# EAGLE library part SD_KARD (library kartaSD)
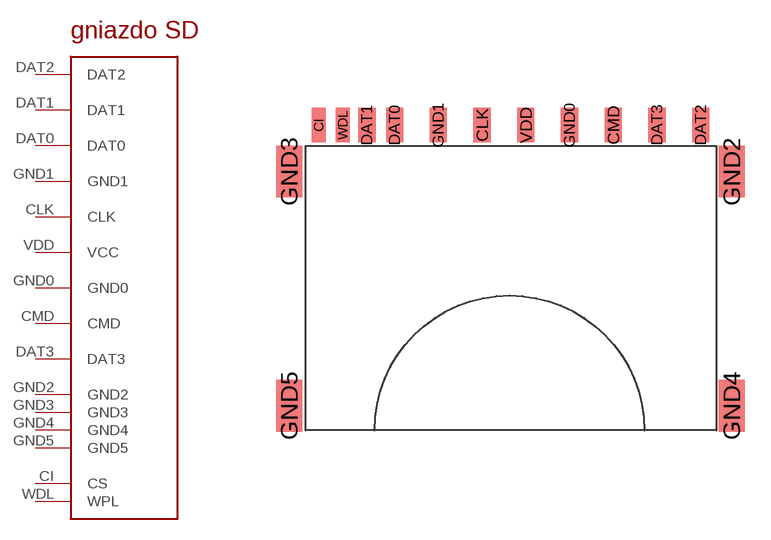
[diagram p0: symbol with the pads of SD_SOCKET; footprint SD_SOCKET]

Designator prefix -

## SD_KARD  [SD_SOCKET]
CI  CS
CLK  CLK
CMD  CMD
DAT0  DAT0
DAT1  DAT1
DAT2  DAT2
DAT3  DAT3
GND0  GND0
GND1  GND1
GND2  GND2
GND3  GND3
GND4  GND4
GND5  GND5
VDD  VCC
WDL  WPL

## Footprint SD_SOCKET (pad centres in mm)
smd 0.8 x 2: CI -11,8.29; WDL -9.6,8.29
smd 1 x 2: CLK -1.51,8.29; CMD 6.11,8.29; DAT0 -6.59,8.29; DAT1 -8.2,8.29; DAT2 11.19,8.29; DAT3 8.65,8.29; GND0 3.57,8.29; GND1 -4.05,8.29; VDD 1.03,8.29
smd 1.5 x 3: GND2 12.99,5.59; GND3 -12.71,5.59; GND4 12.99,-8.01; GND5 -12.71,-8.01